# Altium footprint library ABEZD03RA3.PcbLib: 1 footprints
Each footprint in its own frame and in the unit in brackets; x right, y up, seen from the top. Pads: shape width x height; smd on the part's side, far side on the other; paste and mask are expansions set on the pad; w line width, h text height; cw(c..) or ccw(c..) is an arc to the next point about the centre after c.
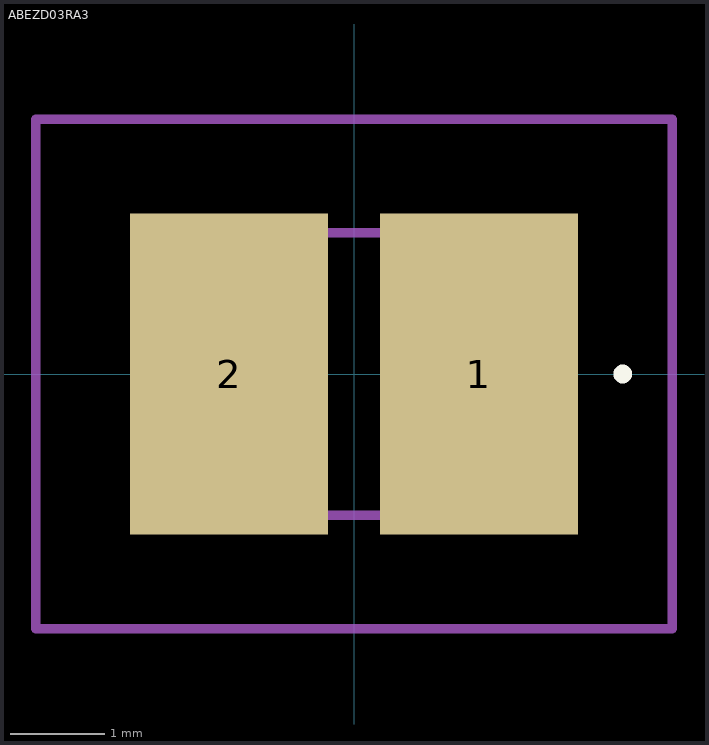
[diagram p0: the footprint, top view; thin cyan lines are the x and y axes]

## ABEZD03RA3 [mm]
pads (2):
  rect 2.1x3.4 smd: 1(1.325,0) 2(-1.325,0)
Top Overlay:
  lines w0.1: 2.8,0 cw(c2.85,0) 2.9,0 ; 2.8,0 2.8,0 ; 2.8,0 ccw(c2.85,0) 2.9,0 ; 2.8,0 cw(c2.85,0) 2.9,0 ; 2.9,0 2.9,0 ; 2.9,0 2.9,0
Mechanical 15:
  lines w0.1: -1.5,-1.5 1.5,-1.5 1.5,1.5 -1.5,1.5 -1.5,-1.5
Mechanical 20:
  lines w0.1: -3.375,-2.7 3.375,-2.7 3.375,2.7 -3.375,2.7 -3.375,-2.7